# Altium footprint library ATmega328p.PcbLib: 8 footprints
Each footprint in its own frame and in the unit in brackets; x right, y up, seen from the top. Pads: shape width x height; smd on the part's side, far side on the other; paste and mask are expansions set on the pad; w line width, h text height; cw(c..) or ccw(c..) is an arc to the next point about the centre after c.
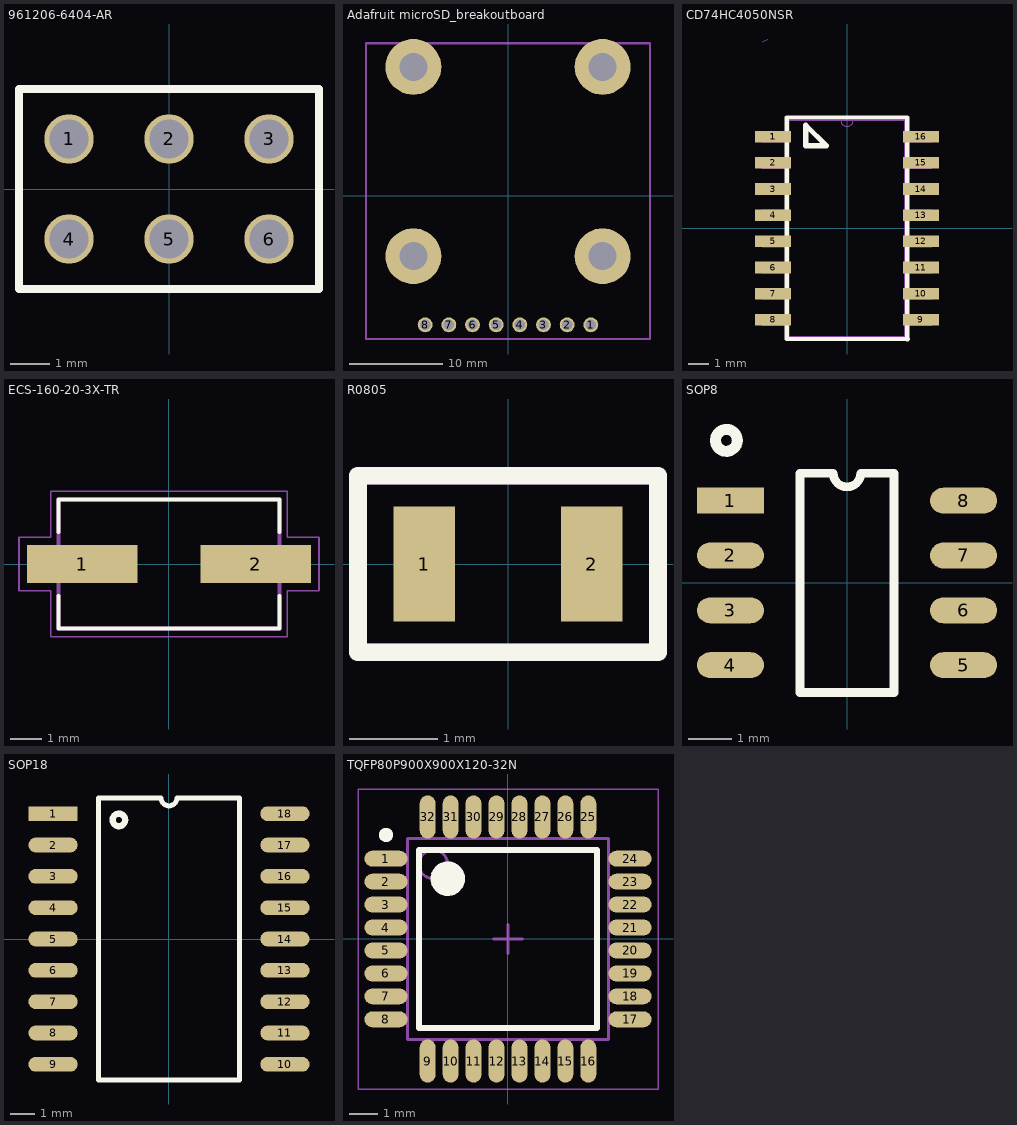
[diagram p0: the footprints below, top view; thin cyan lines are the x and y axes]

## 961206-6404-AR [mm] "CONN HEADER VERT 6POS 2.54MM"
pads (6):
  round 1.25 hole 1: 1(-2.54,1.27) 2(0,1.27) 3(2.54,1.27) 4(-2.54,-1.27) 5(0,-1.27) 6(2.54,-1.27)
Top Overlay:
  lines w0.2: -3.81,-2.54 -3.81,2.54 0,2.54 3.81,2.54 3.81,-2.54 -3.81,-2.54
3D body "961206-6404-XX.stp": height 7.51, standoff -3.79, extent -3.835,-2.474 3.785,2.526

## Adafruit microSD_breakoutboard [mm]
pads (12):
  round 1.6 hole 1.1 mask+0.102: 1(8.89,-13.843) 2(6.35,-13.843) 3(3.81,-13.843) 4(1.27,-13.843) 5(-1.27,-13.843) 6(-3.81,-13.843) 7(-6.35,-13.843) 8(-8.89,-13.843)
  round 6 hole 3 unplated mask+0.102: ""(-10.16,-6.477) ""(-10.16,13.843) ""(10.16,-6.477) ""(10.16,13.843)
Dimensions:
  lines w0.254: -15.24,-15.367 -15.24,16.383 15.24,16.383 15.24,-15.367 0,-15.367 -15.24,-15.367
  text "(FLIPPED)" at -10.668,1.905 h2.54

## CD74HC4050NSR [mil] "High Speed CMOS Hex Buffer, non inverting"
pads (18):
  rect 68.56x22.36 smd: 1(-141,175) 2(-141,125) 3(-141,75) 4(-141,25) 5(-141,-25) 6(-141,-75) 7(-141,-125) 8(-141,-175) 9(141,-175) 10(141,-125) 11(141,-75) 12(141,-25) 13(141,25) 14(141,75) 15(141,125) 16(141,175)
  rect 68.56x22.36 smd paste+0 mask+0: 1(-141,175) 1(-141,175)
Top Overlay:
  lines w7.87: 114.88,-211.5 -115,-211.5 -115,-201.71 -115,196.85 -115,211.5 115,211.5 115,-211.5
  lines w10: 114.88,-211.5 115,-211.5 ; -78.74,157.48 -78.74,196.85 -39.37,157.48 -78.74,157.48
Dimensions:
  lines w1: -161.5,356.5 -151.5,361.5
Mechanical 13:
  lines w0: -12,206.5 ccw(c0,206.5) 12,206.5
  lines w1: -161.5,-185 -161.5,-165 -110,-165 -110,-185 -161.5,-185 ; -161.5,-135 -161.5,-115 -110,-115 -110,-135 -161.5,-135 ; -161.5,-85 -161.5,-65 -110,-65 -110,-85 -161.5,-85 ; -161.5,-35 -161.5,-15 -110,-15 -110,-35 -161.5,-35 ; -161.5,15 -161.5,35 -110,35 -110,15 -161.5,15 ; -161.5,65 -161.5,85 -110,85 -110,65 -161.5,65 ; -161.5,115 -161.5,135 -110,135 -110,115 -161.5,115 ; -161.5,165 -161.5,185 -110,185 -110,165 -161.5,165 ; -110,-206.5 110,-206.5 110,206.5 -110,206.5 -110,-206.5 ; 110,-185 110,-165 161.5,-165 161.5,-185 110,-185 ; 110,-135 110,-115 161.5,-115 161.5,-135 110,-135 ; 110,-85 110,-65 161.5,-65 161.5,-85 110,-85 ; 110,-35 110,-15 161.5,-15 161.5,-35 110,-35 ; 110,15 110,35 161.5,35 161.5,15 110,15 ; 110,65 110,85 161.5,85 161.5,65 110,65 ; 110,115 110,135 161.5,135 161.5,115 110,115 ; 110,165 110,185 161.5,185 161.5,165 110,165

## ECS-160-20-3X-TR [mm]
pads (2):
  rect 3.5x1.2 smd: 1(-2.75,0) 2(2.75,0)
Top Overlay:
  lines w0.127: -3.5,-1.01 -3.5,-2.05 3.5,-2.05 3.5,-1.01 ; -3.5,1.01 -3.5,2.05 3.5,2.05 3.5,1.01
Mechanical 13:
  lines w0.127: -3.5,-2.05 -3.5,2.05 3.5,2.05 3.5,-2.05 -3.5,-2.05
Mechanical 15:
  lines w0.05: -4.75,-0.85 -4.75,0.85 -3.75,0.85 -3.75,2.3 3.75,2.3 3.75,0.85 4.75,0.85 4.75,-0.85 3.75,-0.85 3.75,-2.3 -3.75,-2.3 -3.75,-0.85 -4.75,-0.85
3D body: height 0.25, standoff 0, extent -0.224,0.286 -0.224,0.286

## R0805 [mm]
pads (2):
  rect 0.7x1.3 smd: 1(-0.95,0) 2(0.95,0)
Top Overlay:
  lines w0.2: -1.7,-1 1.7,-1 1.7,1 -1.7,1 -1.7,-1
Mechanical 5:
  lines w0.2: -1.7,-1 -1.7,1 1.7,1 1.7,-1 -1.7,-1
  text "'.Designator'" at -1.499,-0.127 h0.3
3D body "RESC-0805.stp": height 0.6, standoff 0, extent -1.05,-0.675 1.05,0.675

## SOP8 [mm]
pads (8):
  rect 1.55x0.6 smd: 1(-2.7,1.905)
  oval 1.55x0.6 smd: 2(-2.7,0.635) 3(-2.7,-0.635) 4(-2.7,-1.905) 5(2.7,-1.905) 6(2.7,-0.635) 7(2.7,0.635) 8(2.7,1.905)
Top Overlay:
  circle w0.254: c-2.794,3.302 r0.254
  lines w0.2: -1.09,-2.54 -1.09,2.54 -0.318,2.54 ccw(c0,2.54) 0.318,2.54 1.09,2.54 1.09,-2.54 -1.09,-2.54
3D body "NE555DR.stp": height 1.75, standoff 0, extent -3,-2.45 3,2.45

## SOP18 [mm]
pads (18):
  rect 2x0.6 smd: 1(-4.7,5.08)
  oval 2x0.6 smd: 2(-4.7,3.81) 3(-4.7,2.54) 4(-4.7,1.27) 5(-4.7,0) 6(-4.7,-1.27) 7(-4.7,-2.54) 8(-4.7,-3.81) 9(-4.7,-5.08) 10(4.7,-5.08) 11(4.7,-3.81) 12(4.7,-2.54) 13(4.7,-1.27) 14(4.7,0) 15(4.7,1.27) 16(4.7,2.54) 17(4.7,3.81) 18(4.7,5.08)
Top Overlay:
  circle w0.254: c-2.032,4.826 r0.254
  lines w0.2: -2.865,-5.715 2.865,-5.715 2.865,5.715 0.318,5.715 cw(c0,5.715) -0.318,5.715 -2.865,5.715 -2.865,-5.715
3D body: height 2.65, standoff 0.1, extent -3.75,-5.8 3.75,5.8

## TQFP80P900X900X120-32N [mm] "TQFP, 32-Leads, Body 7.00x7.00mm, Pitch 0.80mm, IPC Medium Density"
height 1.2
pads (32):
  oval 1.5x0.55 smd: 1(-4.25,2.8) 2(-4.25,2) 3(-4.25,1.2) 4(-4.25,0.4) 5(-4.25,-0.4) 6(-4.25,-1.2) 7(-4.25,-2) 8(-4.25,-2.8) 17(4.25,-2.8) 18(4.25,-2) 19(4.25,-1.2) 20(4.25,-0.4) 21(4.25,0.4) 22(4.25,1.2) 23(4.25,2) 24(4.25,2.8)
  oval 0.55x1.5 smd: 9(-2.8,-4.25) 10(-2,-4.25) 11(-1.2,-4.25) 12(-0.4,-4.25) 13(0.4,-4.25) 14(1.2,-4.25) 15(2,-4.25) 16(2.8,-4.25) 25(2.8,4.25) 26(2,4.25) 27(1.2,4.25) 28(0.4,4.25) 29(-0.4,4.25) 30(-1.2,4.25) 31(-2,4.25) 32(-2.8,4.25)
Top Overlay:
  circle w0.25: c-4.25,3.625 r0.125
  circle w0.6: c-2.1,2.1 r0.3
  lines w0.2: -3.1,-3.1 -3.1,3.1 3.1,3.1 3.1,-3.1 -3.1,-3.1
Mechanical 13:
  circle w0.1: c-2.6,2.6 r0.5
  lines w0.1: -3.5,-3.5 -3.5,3.5 3.5,3.5 3.5,-3.5 -3.5,-3.5
Mechanical 15:
  lines w0.05: -5.225,-5.225 -5.225,5.225 5.225,5.225 5.225,-5.225 -5.225,-5.225
  lines w0.1: -0.5,0 0.5,0 ; 0,-0.5 0,0.5
3D body: height 1.2, standoff 0.05, extent -3.5,-3.5 3.5,3.5